# Altium footprint library ACS722KMATR-10AB-T.PcbLib: 1 footprints
Each footprint in its own frame and in the unit in brackets; x right, y up, seen from the top. Pads: shape width x height; smd on the part's side, far side on the other; paste and mask are expansions set on the pad; w line width, h text height; cw(c..) or ccw(c..) is an arc to the next point about the centre after c.
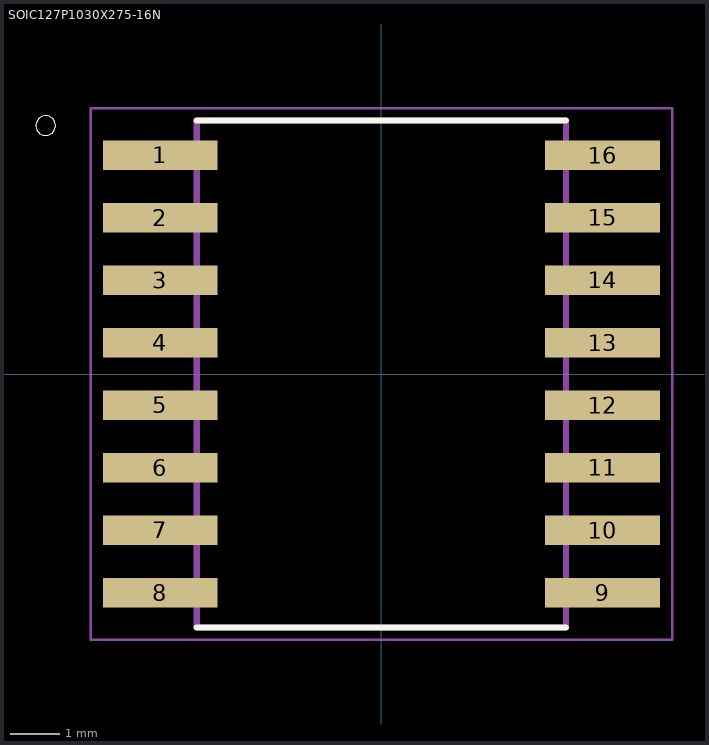
[diagram p0: the footprint, top view; thin cyan lines are the x and y axes]

## SOIC127P1030X275-16N [mm]
pads (16):
  rect 2.33x0.6 smd: 1(-4.49,4.445) 2(-4.49,3.175) 3(-4.49,1.905) 4(-4.49,0.635) 5(-4.49,-0.635) 6(-4.49,-1.905) 7(-4.49,-3.175) 8(-4.49,-4.445) 9(4.49,-4.445) 10(4.49,-3.175) 11(4.49,-1.905) 12(4.49,-0.635) 13(4.49,0.635) 14(4.49,1.905) 15(4.49,3.175) 16(4.49,4.445)
Top Overlay:
  circle w0: c-6.82,5.045 r0.2
  lines w0.127: -3.75,-5.15 3.75,-5.15 ; -3.75,5.15 3.75,5.15
Mechanical 1:
  circle w0: c-6.82,5.045 r0.2
  lines w0.05: -5.905,-5.4 5.905,-5.4 5.905,5.4 -5.905,5.4 -5.905,-5.4
  lines w0.127: -3.75,-5.15 3.75,-5.15 3.75,5.15 -3.75,5.15 -3.75,-5.15
3D body "User Library-so16w.STEP": height 3.5, standoff 0, extent -5.15,-5.1 5.15,5.1